# Altium schematic symbol library MCP6N11T-100E_MNY.Schlib: 1 symbol
Pins are listed as number, name and electrical type; pins without a type are passive.

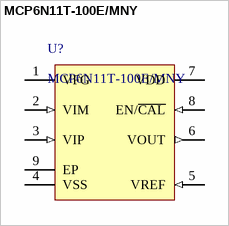
[diagram p0: symbol MCP6N11T-100E/MNY]

## MCP6N11T-100E/MNY
designator U?
Instrumentation Amplifier 1 Circuit Rail-to-Rail 8-TDFN (2x3)
pins: 1 VFG, 2 VIM (in), 3 VIP (in), 4 VSS (power), 5 VREF (in), 6 VOUT (out), 7 VDD (power), 8 EN/~{CAL} (in), 9 EP